# EAGLE library part TDA7376PD (library Audio-Power-amlifier V.2.0)
2 X 35W POWER AMPLIFIER FOR CAR RADIO
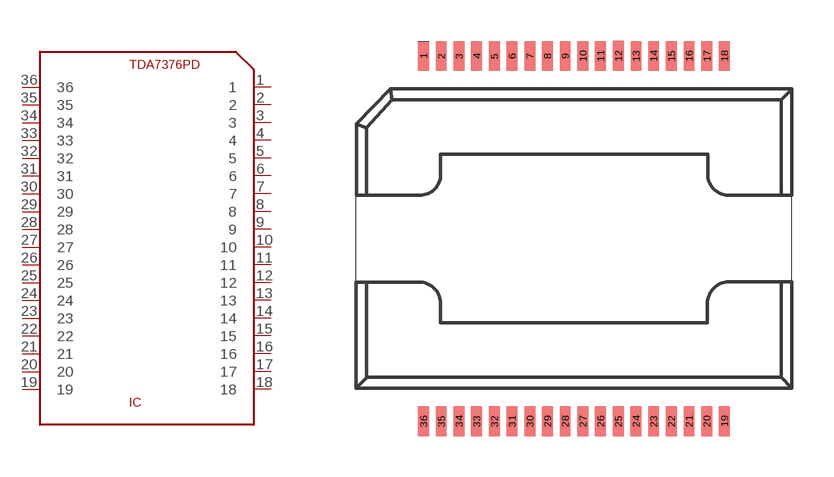
[diagram p59: symbol with the pads of SO36-POWER_SLUG_UP; footprint SO36-POWER_SLUG_UP]

Designator prefix IC

## TDA7376PD  [SO36-POWER_SLUG_UP]
1  1
2  2  pwr
3  3  pwr
4  4  nc
5  5  out
6  6  out
7  7  nc
8  8  out
9  9  out
10  10  pwr
11  11  pwr
12  12  in
13  13  in
14  14  nc
15  15  nc
16  16
17  17
18  18  pwr
19  19  nc
20  20
21  21  out
22  22  nc
23  23  nc
24  24  in
25  25  in
26  26  pwr
27  27  pwr
28  28  out
29  29  out
30  30  nc
31  31  out
32  32  out
33  33  out
34  34  pwr
35  35  pwr
36  36  nc

## Footprint SO36-POWER_SLUG_UP (pad centres in mm)
smd 0.4 x 1.1: 1 -5.525,6.7; 2 -4.875,6.7; 3 -4.225,6.7; 4 -3.575,6.7; 5 -2.925,6.7; 6 -2.275,6.7; 7 -1.62,6.7; 8 -0.975,6.7; 9 -0.325,6.7; 10 0.33,6.7; 11 0.975,6.7; 12 1.63,6.705; 13 2.28,6.7; 14 2.925,6.7; 15 3.575,6.7; 16 4.225,6.7; 17 4.88,6.7; 18 5.525,6.7; 19 5.525,-6.7; 20 4.875,-6.7; 21 4.225,-6.7; 22 3.575,-6.7; 23 2.925,-6.7; 24 2.275,-6.7; 25 1.625,-6.7; 26 0.975,-6.7; 27 0.325,-6.7; 28 -0.325,-6.7; 29 -0.975,-6.7; 30 -1.62,-6.7; 31 -2.275,-6.7; 32 -2.925,-6.7; 33 -3.575,-6.7; 34 -4.225,-6.7; 35 -4.875,-6.7; 36 -5.525,-6.7